# Altium integrated library ISSI SRAM Synchronous SRAM No-Wait(ZBT).IntLib: 1246 symbols (part 130 of 152)
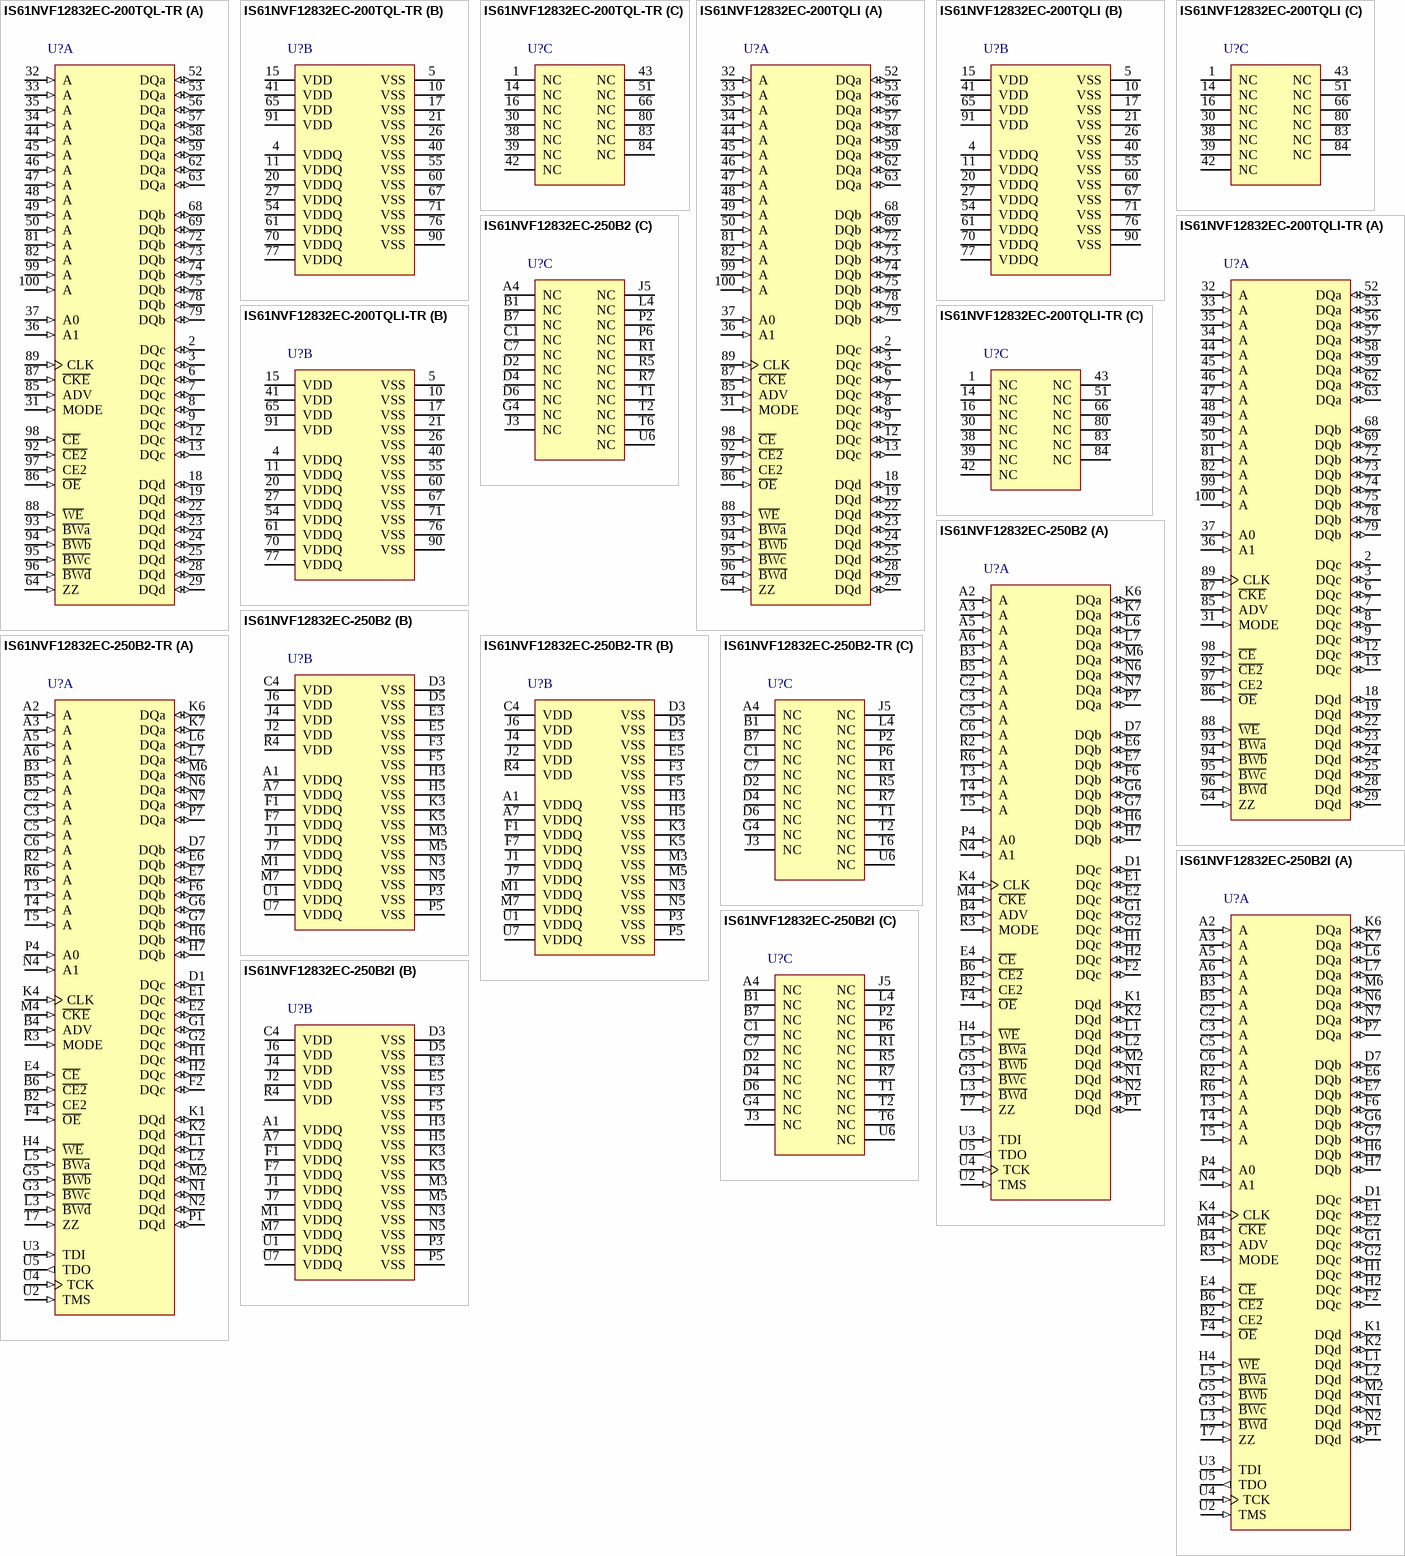
[diagram p304: symbols IS61NVF12832EC-200TQL-TR to IS61NVF12832EC-250B2I]

## IS61NVF12832EC-200TQLI-TR
designator U?
4 M Flow Through 'No Wait' State Bus Synchronous SRAM with ECC, 128 K x 32, -40 to 85 degC, 100-Pin QFP (TQFP-100), Pb-Free; Manufacturer: Integrated Silicon Solution Inc (ISSI); PartNumber: IS61NVF12832EC-200TQLI-TR; Density: 4M; Packing: Tape & Reel; Vcc: 2.5 V; DatasheetVersion: Rev. A; PackageVersion: Rev. F, 09/2009; PackageReference: TQFP-100; PackageDescription: 100-Pin 20 x 14 mm LQFP, Pitch 0.65 mm; Organization: 128Kx32; RoHS: Pb-Free; VccQ: 2.5 V; Mounting Technology: Surface Mount; ComponentLink1Description: Manufacturer URL; ComponentLink1URL: http://www.issi.com/US/index.shtml; ComponentLink2Description: Datasheet; ComponentLink2URL: http://www.issi.com/WW/pdf/61-64NLF_NVF12832EC-12836EC-25618EC.pdf; ComponentLink3Description: Package Specification; ComponentLink3URL: http://www.issi.com/WW/pdf/61VPS_LPS25636A_51218A.pdf
footprint ISSI-TQFP-100-20000X14000DE_N (QFP, 100-Leads, Body 20x14mm, Pitch 0.65mm, IPC Medium Density)
part A pins: 2 DQc (io) "Data I/O", 3 DQc (io) "Data I/O", 6 DQc (io) "Data I/O", 7 DQc (io) "Data I/O", 8 DQc (io) "Data I/O", 9 DQc (io) "Data I/O", 12 DQc (io) "Data I/O", 13 DQc (io) "Data I/O", 18 DQd (io) "Data I/O", 19 DQd (io) "Data I/O", 22 DQd (io) "Data I/O", 23 DQd (io) "Data I/O", 24 DQd (io) "Data I/O", 25 DQd (io) "Data I/O", 28 DQd (io) "Data I/O", 29 DQd (io) "Data I/O", 31 MODE (in) "Burst Sequence Selection", 32 A (in) "Synchronous Address Input", 33 A (in) "Synchronous Address Input", 34 A (in) "Synchronous Address Input", 35 A (in) "Synchronous Address Input", 36 A1 (in) "Synchronous Burst Address Input", 37 A0 (in) "Synchronous Burst Address Input", 44 A (in) "Synchronous Address Input", 45 A (in) "Synchronous Address Input", 46 A (in) "Synchronous Address Input", 47 A (in) "Synchronous Address Input", 48 A (in) "Synchronous Address Input", 49 A (in) "Synchronous Address Input", 50 A (in) "Synchronous Address Input", 52 DQa (io) "Data I/O", 53 DQa (io) "Data I/O", 56 DQa (io) "Data I/O", 57 DQa (io) "Data I/O", 58 DQa (io) "Data I/O", 59 DQa (io) "Data I/O", 62 DQa (io) "Data I/O", 63 DQa (io) "Data I/O", 64 ZZ (in) "Power Sleep Mode", 68 DQb (io) "Data I/O", 69 DQb (io) "Data I/O", 72 DQb (io) "Data I/O", 73 DQb (io) "Data I/O", 74 DQb (io) "Data I/O", 75 DQb (io) "Data I/O", 78 DQb (io) "Data I/O", 79 DQb (io) "Data I/O", 81 A (in) "Synchronous Address Input", 82 A (in) "Synchronous Address Input", 85 ADV (in) "Synchronous Burst Address Advance/Load", 86 ~{OE} (in) "Output Enable", 87 ~{CKE} (in) "Clock Enable", 88 ~{WE} (in) "Synchronous Read/Write Control Input", 89 CLK (in) "Synchronous Clock", 92 ~{CE2} (in) "Synchronous Chip Enable", 93 ~{BWa} (in) "Synchronous Byte Write Input", 94 ~{BWb} (in) "Synchronous Byte Write Input", 95 ~{BWc} (in) "Synchronous Byte Write Input", 96 ~{BWd} (in) "Synchronous Byte Write Input", 97 CE2 (in) "Synchronous Chip Enable", 98 ~{CE} (in) "Synchronous Chip Enable", 99 A (in) "Synchronous Address Input", 100 A (in) "Synchronous Address Input"
part B pins: 4 VDDQ (power) "I/O Power Supply", 5 VSS (power) "Ground", 10 VSS (power) "Ground", 11 VDDQ (power) "I/O Power Supply", 15 VDD (power) "Power Supply", 17 VSS (power) "Ground", 20 VDDQ (power) "I/O Power Supply", 21 VSS (power) "Ground", 26 VSS (power) "Ground", 27 VDDQ (power) "I/O Power Supply", 40 VSS (power) "Ground", 41 VDD (power) "Power Supply", 54 VDDQ (power) "I/O Power Supply", 55 VSS (power) "Ground", 60 VSS (power) "Ground", 61 VDDQ (power) "I/O Power Supply", 65 VDD (power) "Power Supply", 67 VSS (power) "Ground", 70 VDDQ (power) "I/O Power Supply", 71 VSS (power) "Ground", 76 VSS (power) "Ground", 77 VDDQ (power) "I/O Power Supply", 90 VSS (power) "Ground", 91 VDD (power) "Power Supply"
part C pins: 1 NC "No Connect", 14 NC "No Connect", 16 NC "No Connect", 30 NC "No Connect", 38 NC "No Connect", 39 NC "No Connect", 42 NC "No Connect", 43 NC "No Connect", 51 NC "No Connect", 66 NC "No Connect", 80 NC "No Connect", 83 NC "No Connect", 84 NC "No Connect"

## IS61NVF12832EC-250B2
designator U?
4 M Flow Through 'No Wait' State Bus Synchronous SRAM with ECC, 128 K x 32, 0 to 70 degC, 119-Pin BGA (PBGA-119); Manufacturer: Integrated Silicon Solution Inc (ISSI); PartNumber: IS61NVF12832EC-250B2; Density: 4M; Packing: Tray / Tube; Vcc: 2.5 V; DatasheetVersion: Rev. A; PackageVersion: Rev. D, 10/2008; PackageReference: PBGA-119; PackageDescription: 119-Pin 14 x 22 mm PBGA, Pitch 1.27 mm; Organization: 128Kx32; VccQ: 2.5 V; Mounting Technology: Surface Mount; Code_JEDEC: MS-028; ComponentLink1Description: Manufacturer URL; ComponentLink1URL: http://www.issi.com/US/index.shtml; ComponentLink2Description: Datasheet; ComponentLink2URL: http://www.issi.com/WW/pdf/61-64NLF_NVF12832EC-12836EC-25618EC.pdf; ComponentLink3Description: Package Specification; ComponentLink3URL: http://www.issi.com/WW/pdf/61NLP_NVP25636A_51218A.pdf
footprint ISSI-PBGA-119-14000X22000DE (BGA, 119-Balls, Body 22x14mm, Pitch 1.27mm)
part A pins: A2 A (in) "Synchronous Address Input", A3 A (in) "Synchronous Address Input", A5 A (in) "Synchronous Address Input", A6 A (in) "Synchronous Address Input", B2 CE2 (in) "Synchronous Chip Enable", B3 A (in) "Synchronous Address Input", B4 ADV (in) "Synchronous Advance/Load", B5 A (in) "Synchronous Address Input", B6 ~{CE2} (in) "Synchronous Chip Enable", C2 A (in) "Synchronous Address Input", C3 A (in) "Synchronous Address Input", C5 A (in) "Synchronous Address Input", C6 A (in) "Synchronous Address Input", D1 DQc (io) "Synchronous Data Input/Output", D7 DQb (io) "Synchronous Data Input/Output", E1 DQc (io) "Synchronous Data Input/Output", E2 DQc (io) "Synchronous Data Input/Output", E4 ~{CE} (in) "Synchronous Chip Enable", E6 DQb (io) "Synchronous Data Input/Output", E7 DQb (io) "Synchronous Data Input/Output", F2 DQc (io) "Synchronous Data Input/Output", F4 ~{OE} (in) "Output Enable", F6 DQb (io) "Synchronous Data Input/Output", G1 DQc (io) "Synchronous Data Input/Output", G2 DQc (io) "Synchronous Data Input/Output", G3 ~{BWc} (in) "Synchronous Byte Write Input", G5 ~{BWb} (in) "Synchronous Byte Write Input", G6 DQb (io) "Synchronous Data Input/Output", G7 DQb (io) "Synchronous Data Input/Output", H1 DQc (io) "Synchronous Data Input/Output", H2 DQc (io) "Synchronous Data Input/Output", H4 ~{WE} (in) "Synchronous Byte Write Enable", H6 DQb (io) "Synchronous Data Input/Output", H7 DQb (io) "Synchronous Data Input/Output", K1 DQd (io) "Synchronous Data Input/Output", K2 DQd (io) "Synchronous Data Input/Output", K4 CLK (in) "Synchronous Clock", K6 DQa (io) "Synchronous Data Input/Output", K7 DQa (io) "Synchronous Data Input/Output", L1 DQd (io) "Synchronous Data Input/Output", L2 DQd (io) "Synchronous Data Input/Output", L3 ~{BWd} (in) "Synchronous Byte Write Input", L5 ~{BWa} (in) "Synchronous Byte Write Input", L6 DQa (io) "Synchronous Data Input/Output", L7 DQa (io) "Synchronous Data Input/Output", M2 DQd (io) "Synchronous Data Input/Output", M4 ~{CKE} (in) "Clock Enable", M6 DQa (io) "Synchronous Data Input/Output", N1 DQd (io) "Synchronous Data Input/Output", N2 DQd (io) "Synchronous Data Input/Output", N4 A1 (in) "Synchronous Burst Address Input", N6 DQa (io) "Synchronous Data Input/Output", N7 DQa (io) "Synchronous Data Input/Output", P1 DQd (io) "Synchronous Data Input/Output", P4 A0 (in) "Synchronous Burst Address Input", P7 DQa (io) "Synchronous Data Input/Output", R2 A (in) "Synchronous Address Input", R3 MODE (in) "Burst Sequence Selection", R6 A (in) "Synchronous Address Input", T3 A (in) "Synchronous Address Input", T4 A (in) "Synchronous Address Input", T5 A (in) "Synchronous Address Input", T7 ZZ (in) "Power Sleep Mode", U2 TMS (in) "JTAG Pin", U3 TDI (in) "JTAG Pin", U4 TCK (in) "JTAG Pin", U5 TDO (out) "JTAG Pin"
part B pins: A1 VDDQ (power) "I/O Power Supply", A7 VDDQ (power) "I/O Power Supply", C4 VDD (power) "Power Supply", D3 VSS (power) "Ground", D5 VSS (power) "Ground", E3 VSS (power) "Ground", E5 VSS (power) "Ground", F1 VDDQ (power) "I/O Power Supply", F3 VSS (power) "Ground", F5 VSS (power) "Ground", F7 VDDQ (power) "I/O Power Supply", H3 VSS (power) "Ground", H5 VSS (power) "Ground", J1 VDDQ (power) "I/O Power Supply", J2 VDD (power) "Power Supply", J4 VDD (power) "Power Supply", J6 VDD (power) "Power Supply", J7 VDDQ (power) "I/O Power Supply", K3 VSS (power) "Ground", K5 VSS (power) "Ground", M1 VDDQ (power) "I/O Power Supply", M3 VSS (power) "Ground", M5 VSS (power) "Ground", M7 VDDQ (power) "I/O Power Supply", N3 VSS (power) "Ground", N5 VSS (power) "Ground", P3 VSS (power) "Ground", P5 VSS (power) "Ground", R4 VDD (power) "Power Supply", U1 VDDQ (power) "I/O Power Supply", U7 VDDQ (power) "I/O Power Supply"
part C pins: A4 NC "No Connect", B1 NC "No Connect", B7 NC "No Connect", C1 NC "No Connect", C7 NC "No Connect", D2 NC "No Connect", D4 NC "No Connect", D6 NC "No Connect", G4 NC "No Connect", J3 NC "No Connect", J5 NC "No Connect", L4 NC "No Connect", P2 NC "No Connect", P6 NC "No Connect", R1 NC "No Connect", R5 NC "No Connect", R7 NC "No Connect", T1 NC "No Connect", T2 NC "No Connect", T6 NC "No Connect", U6 NC "No Connect"

## IS61NVF12832EC-250B2-TR
designator U?
4 M Flow Through 'No Wait' State Bus Synchronous SRAM with ECC, 128 K x 32, 0 to 70 degC, 119-Pin BGA (PBGA-119); Manufacturer: Integrated Silicon Solution Inc (ISSI); PartNumber: IS61NVF12832EC-250B2-TR; Density: 4M; Packing: Tape & Reel; Vcc: 2.5 V; DatasheetVersion: Rev. A; PackageVersion: Rev. D, 10/2008; PackageReference: PBGA-119; PackageDescription: 119-Pin 14 x 22 mm PBGA, Pitch 1.27 mm; Organization: 128Kx32; VccQ: 2.5 V; Mounting Technology: Surface Mount; Code_JEDEC: MS-028; ComponentLink1Description: Manufacturer URL; ComponentLink1URL: http://www.issi.com/US/index.shtml; ComponentLink2Description: Datasheet; ComponentLink2URL: http://www.issi.com/WW/pdf/61-64NLF_NVF12832EC-12836EC-25618EC.pdf; ComponentLink3Description: Package Specification; ComponentLink3URL: http://www.issi.com/WW/pdf/61NLP_NVP25636A_51218A.pdf
footprint ISSI-PBGA-119-14000X22000DE (BGA, 119-Balls, Body 22x14mm, Pitch 1.27mm)
part A pins: A2 A (in) "Synchronous Address Input", A3 A (in) "Synchronous Address Input", A5 A (in) "Synchronous Address Input", A6 A (in) "Synchronous Address Input", B2 CE2 (in) "Synchronous Chip Enable", B3 A (in) "Synchronous Address Input", B4 ADV (in) "Synchronous Advance/Load", B5 A (in) "Synchronous Address Input", B6 ~{CE2} (in) "Synchronous Chip Enable", C2 A (in) "Synchronous Address Input", C3 A (in) "Synchronous Address Input", C5 A (in) "Synchronous Address Input", C6 A (in) "Synchronous Address Input", D1 DQc (io) "Synchronous Data Input/Output", D7 DQb (io) "Synchronous Data Input/Output", E1 DQc (io) "Synchronous Data Input/Output", E2 DQc (io) "Synchronous Data Input/Output", E4 ~{CE} (in) "Synchronous Chip Enable", E6 DQb (io) "Synchronous Data Input/Output", E7 DQb (io) "Synchronous Data Input/Output", F2 DQc (io) "Synchronous Data Input/Output", F4 ~{OE} (in) "Output Enable", F6 DQb (io) "Synchronous Data Input/Output", G1 DQc (io) "Synchronous Data Input/Output", G2 DQc (io) "Synchronous Data Input/Output", G3 ~{BWc} (in) "Synchronous Byte Write Input", G5 ~{BWb} (in) "Synchronous Byte Write Input", G6 DQb (io) "Synchronous Data Input/Output", G7 DQb (io) "Synchronous Data Input/Output", H1 DQc (io) "Synchronous Data Input/Output", H2 DQc (io) "Synchronous Data Input/Output", H4 ~{WE} (in) "Synchronous Byte Write Enable", H6 DQb (io) "Synchronous Data Input/Output", H7 DQb (io) "Synchronous Data Input/Output", K1 DQd (io) "Synchronous Data Input/Output", K2 DQd (io) "Synchronous Data Input/Output", K4 CLK (in) "Synchronous Clock", K6 DQa (io) "Synchronous Data Input/Output", K7 DQa (io) "Synchronous Data Input/Output", L1 DQd (io) "Synchronous Data Input/Output", L2 DQd (io) "Synchronous Data Input/Output", L3 ~{BWd} (in) "Synchronous Byte Write Input", L5 ~{BWa} (in) "Synchronous Byte Write Input", L6 DQa (io) "Synchronous Data Input/Output", L7 DQa (io) "Synchronous Data Input/Output", M2 DQd (io) "Synchronous Data Input/Output", M4 ~{CKE} (in) "Clock Enable", M6 DQa (io) "Synchronous Data Input/Output", N1 DQd (io) "Synchronous Data Input/Output", N2 DQd (io) "Synchronous Data Input/Output", N4 A1 (in) "Synchronous Burst Address Input", N6 DQa (io) "Synchronous Data Input/Output", N7 DQa (io) "Synchronous Data Input/Output", P1 DQd (io) "Synchronous Data Input/Output", P4 A0 (in) "Synchronous Burst Address Input", P7 DQa (io) "Synchronous Data Input/Output", R2 A (in) "Synchronous Address Input", R3 MODE (in) "Burst Sequence Selection", R6 A (in) "Synchronous Address Input", T3 A (in) "Synchronous Address Input", T4 A (in) "Synchronous Address Input", T5 A (in) "Synchronous Address Input", T7 ZZ (in) "Power Sleep Mode", U2 TMS (in) "JTAG Pin", U3 TDI (in) "JTAG Pin", U4 TCK (in) "JTAG Pin", U5 TDO (out) "JTAG Pin"
part B pins: A1 VDDQ (power) "I/O Power Supply", A7 VDDQ (power) "I/O Power Supply", C4 VDD (power) "Power Supply", D3 VSS (power) "Ground", D5 VSS (power) "Ground", E3 VSS (power) "Ground", E5 VSS (power) "Ground", F1 VDDQ (power) "I/O Power Supply", F3 VSS (power) "Ground", F5 VSS (power) "Ground", F7 VDDQ (power) "I/O Power Supply", H3 VSS (power) "Ground", H5 VSS (power) "Ground", J1 VDDQ (power) "I/O Power Supply", J2 VDD (power) "Power Supply", J4 VDD (power) "Power Supply", J6 VDD (power) "Power Supply", J7 VDDQ (power) "I/O Power Supply", K3 VSS (power) "Ground", K5 VSS (power) "Ground", M1 VDDQ (power) "I/O Power Supply", M3 VSS (power) "Ground", M5 VSS (power) "Ground", M7 VDDQ (power) "I/O Power Supply", N3 VSS (power) "Ground", N5 VSS (power) "Ground", P3 VSS (power) "Ground", P5 VSS (power) "Ground", R4 VDD (power) "Power Supply", U1 VDDQ (power) "I/O Power Supply", U7 VDDQ (power) "I/O Power Supply"
part C pins: A4 NC "No Connect", B1 NC "No Connect", B7 NC "No Connect", C1 NC "No Connect", C7 NC "No Connect", D2 NC "No Connect", D4 NC "No Connect", D6 NC "No Connect", G4 NC "No Connect", J3 NC "No Connect", J5 NC "No Connect", L4 NC "No Connect", P2 NC "No Connect", P6 NC "No Connect", R1 NC "No Connect", R5 NC "No Connect", R7 NC "No Connect", T1 NC "No Connect", T2 NC "No Connect", T6 NC "No Connect", U6 NC "No Connect"

## IS61NVF12832EC-250B2I
designator U?
4 M Flow Through 'No Wait' State Bus Synchronous SRAM with ECC, 128 K x 32, -40 to 85 degC, 119-Pin BGA (PBGA-119); Manufacturer: Integrated Silicon Solution Inc (ISSI); PartNumber: IS61NVF12832EC-250B2I; Density: 4M; Packing: Tray / Tube; Vcc: 2.5 V; DatasheetVersion: Rev. A; PackageVersion: Rev. D, 10/2008; PackageReference: PBGA-119; PackageDescription: 119-Pin 14 x 22 mm PBGA, Pitch 1.27 mm; Organization: 128Kx32; VccQ: 2.5 V; Mounting Technology: Surface Mount; Code_JEDEC: MS-028; ComponentLink1Description: Manufacturer URL; ComponentLink1URL: http://www.issi.com/US/index.shtml; ComponentLink2Description: Datasheet; ComponentLink2URL: http://www.issi.com/WW/pdf/61-64NLF_NVF12832EC-12836EC-25618EC.pdf; ComponentLink3Description: Package Specification; ComponentLink3URL: http://www.issi.com/WW/pdf/61NLP_NVP25636A_51218A.pdf
footprint ISSI-PBGA-119-14000X22000DE (BGA, 119-Balls, Body 22x14mm, Pitch 1.27mm)
part A pins: A2 A (in) "Synchronous Address Input", A3 A (in) "Synchronous Address Input", A5 A (in) "Synchronous Address Input", A6 A (in) "Synchronous Address Input", B2 CE2 (in) "Synchronous Chip Enable", B3 A (in) "Synchronous Address Input", B4 ADV (in) "Synchronous Advance/Load", B5 A (in) "Synchronous Address Input", B6 ~{CE2} (in) "Synchronous Chip Enable", C2 A (in) "Synchronous Address Input", C3 A (in) "Synchronous Address Input", C5 A (in) "Synchronous Address Input", C6 A (in) "Synchronous Address Input", D1 DQc (io) "Synchronous Data Input/Output", D7 DQb (io) "Synchronous Data Input/Output", E1 DQc (io) "Synchronous Data Input/Output", E2 DQc (io) "Synchronous Data Input/Output", E4 ~{CE} (in) "Synchronous Chip Enable", E6 DQb (io) "Synchronous Data Input/Output", E7 DQb (io) "Synchronous Data Input/Output", F2 DQc (io) "Synchronous Data Input/Output", F4 ~{OE} (in) "Output Enable", F6 DQb (io) "Synchronous Data Input/Output", G1 DQc (io) "Synchronous Data Input/Output", G2 DQc (io) "Synchronous Data Input/Output", G3 ~{BWc} (in) "Synchronous Byte Write Input", G5 ~{BWb} (in) "Synchronous Byte Write Input", G6 DQb (io) "Synchronous Data Input/Output", G7 DQb (io) "Synchronous Data Input/Output", H1 DQc (io) "Synchronous Data Input/Output", H2 DQc (io) "Synchronous Data Input/Output", H4 ~{WE} (in) "Synchronous Byte Write Enable", H6 DQb (io) "Synchronous Data Input/Output", H7 DQb (io) "Synchronous Data Input/Output", K1 DQd (io) "Synchronous Data Input/Output", K2 DQd (io) "Synchronous Data Input/Output", K4 CLK (in) "Synchronous Clock", K6 DQa (io) "Synchronous Data Input/Output", K7 DQa (io) "Synchronous Data Input/Output", L1 DQd (io) "Synchronous Data Input/Output", L2 DQd (io) "Synchronous Data Input/Output", L3 ~{BWd} (in) "Synchronous Byte Write Input", L5 ~{BWa} (in) "Synchronous Byte Write Input", L6 DQa (io) "Synchronous Data Input/Output", L7 DQa (io) "Synchronous Data Input/Output", M2 DQd (io) "Synchronous Data Input/Output", M4 ~{CKE} (in) "Clock Enable", M6 DQa (io) "Synchronous Data Input/Output", N1 DQd (io) "Synchronous Data Input/Output", N2 DQd (io) "Synchronous Data Input/Output", N4 A1 (in) "Synchronous Burst Address Input", N6 DQa (io) "Synchronous Data Input/Output", N7 DQa (io) "Synchronous Data Input/Output", P1 DQd (io) "Synchronous Data Input/Output", P4 A0 (in) "Synchronous Burst Address Input", P7 DQa (io) "Synchronous Data Input/Output", R2 A (in) "Synchronous Address Input", R3 MODE (in) "Burst Sequence Selection", R6 A (in) "Synchronous Address Input", T3 A (in) "Synchronous Address Input", T4 A (in) "Synchronous Address Input", T5 A (in) "Synchronous Address Input", T7 ZZ (in) "Power Sleep Mode", U2 TMS (in) "JTAG Pin", U3 TDI (in) "JTAG Pin", U4 TCK (in) "JTAG Pin", U5 TDO (out) "JTAG Pin"
part B pins: A1 VDDQ (power) "I/O Power Supply", A7 VDDQ (power) "I/O Power Supply", C4 VDD (power) "Power Supply", D3 VSS (power) "Ground", D5 VSS (power) "Ground", E3 VSS (power) "Ground", E5 VSS (power) "Ground", F1 VDDQ (power) "I/O Power Supply", F3 VSS (power) "Ground", F5 VSS (power) "Ground", F7 VDDQ (power) "I/O Power Supply", H3 VSS (power) "Ground", H5 VSS (power) "Ground", J1 VDDQ (power) "I/O Power Supply", J2 VDD (power) "Power Supply", J4 VDD (power) "Power Supply", J6 VDD (power) "Power Supply", J7 VDDQ (power) "I/O Power Supply", K3 VSS (power) "Ground", K5 VSS (power) "Ground", M1 VDDQ (power) "I/O Power Supply", M3 VSS (power) "Ground", M5 VSS (power) "Ground", M7 VDDQ (power) "I/O Power Supply", N3 VSS (power) "Ground", N5 VSS (power) "Ground", P3 VSS (power) "Ground", P5 VSS (power) "Ground", R4 VDD (power) "Power Supply", U1 VDDQ (power) "I/O Power Supply", U7 VDDQ (power) "I/O Power Supply"
part C pins: A4 NC "No Connect", B1 NC "No Connect", B7 NC "No Connect", C1 NC "No Connect", C7 NC "No Connect", D2 NC "No Connect", D4 NC "No Connect", D6 NC "No Connect", G4 NC "No Connect", J3 NC "No Connect", J5 NC "No Connect", L4 NC "No Connect", P2 NC "No Connect", P6 NC "No Connect", R1 NC "No Connect", R5 NC "No Connect", R7 NC "No Connect", T1 NC "No Connect", T2 NC "No Connect", T6 NC "No Connect", U6 NC "No Connect"

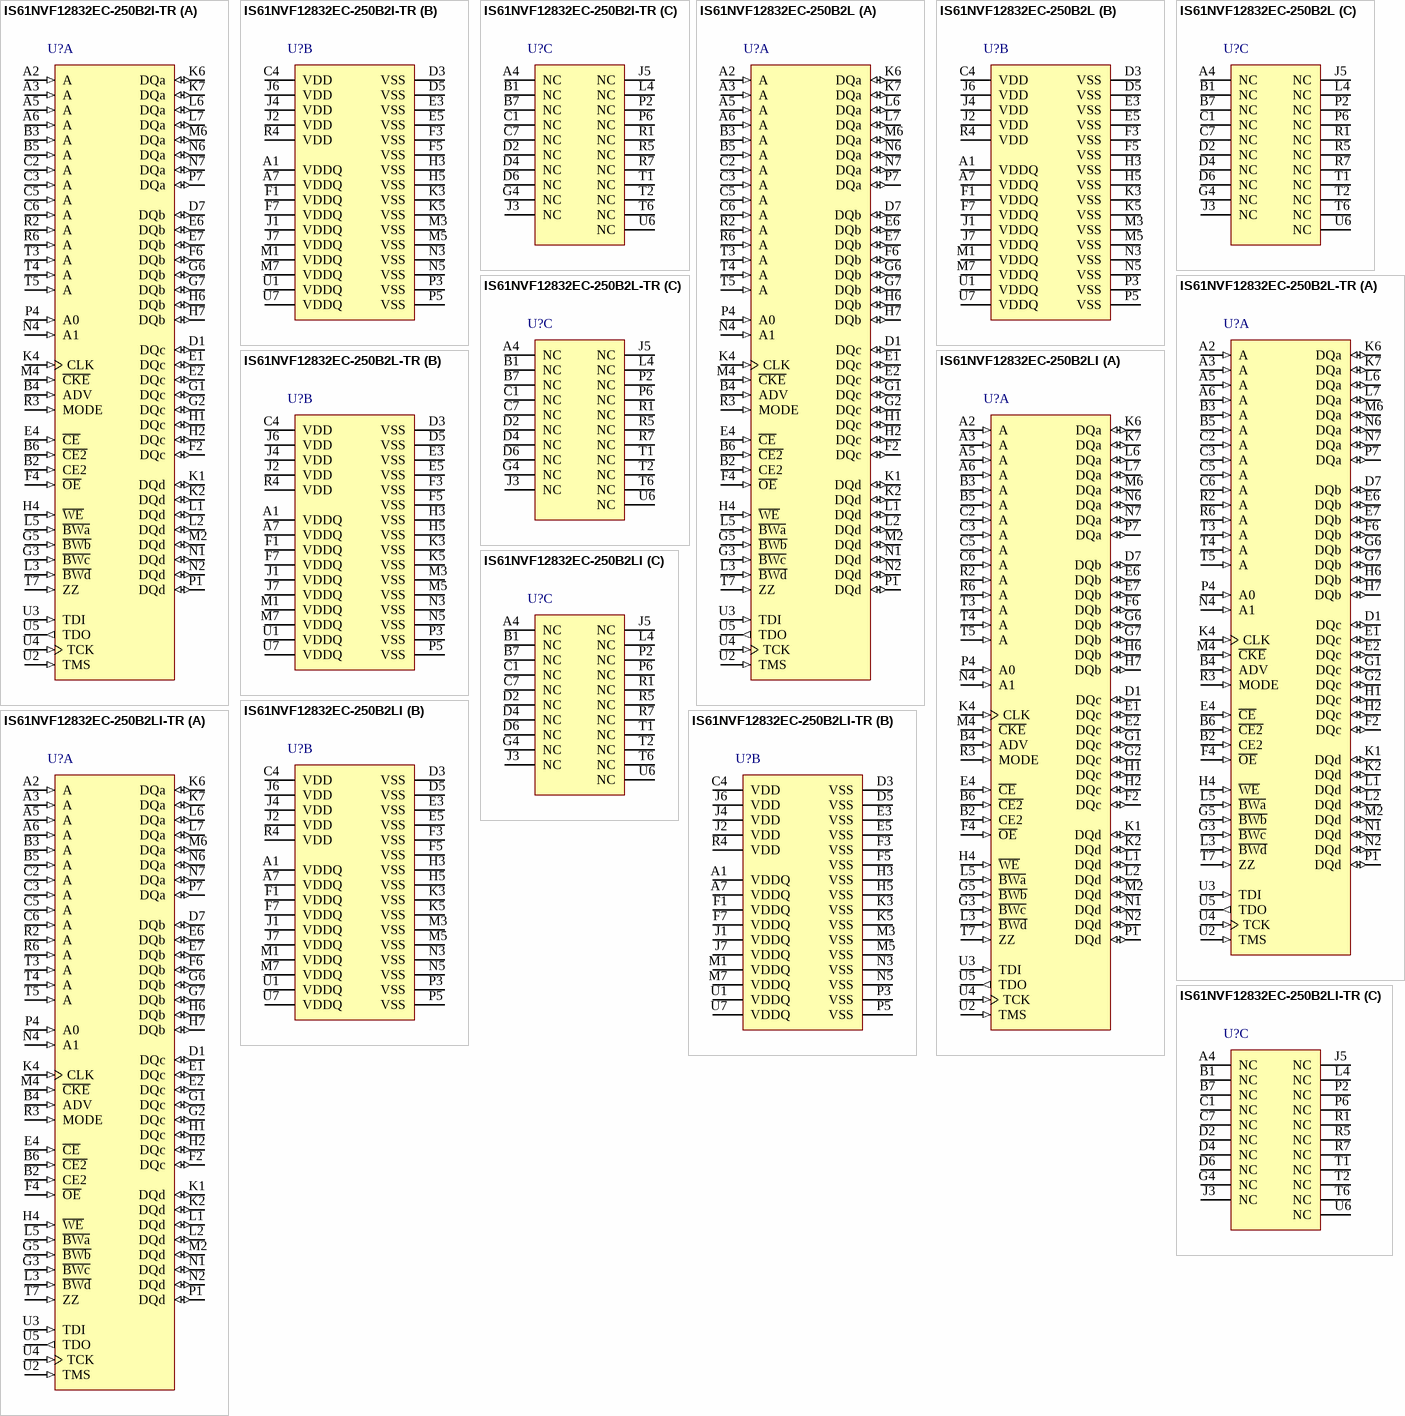
[diagram p128: symbols IS61NVF12832EC-250B2I-TR to IS61NVF12832EC-250B2LI-TR]

## IS61NVF12832EC-250B2I-TR
designator U?
4 M Flow Through 'No Wait' State Bus Synchronous SRAM with ECC, 128 K x 32, -40 to 85 degC, 119-Pin BGA (PBGA-119); Manufacturer: Integrated Silicon Solution Inc (ISSI); PartNumber: IS61NVF12832EC-250B2I-TR; Density: 4M; Packing: Tape & Reel; Vcc: 2.5 V; DatasheetVersion: Rev. A; PackageVersion: Rev. D, 10/2008; PackageReference: PBGA-119; PackageDescription: 119-Pin 14 x 22 mm PBGA, Pitch 1.27 mm; Organization: 128Kx32; VccQ: 2.5 V; Mounting Technology: Surface Mount; Code_JEDEC: MS-028; ComponentLink1Description: Manufacturer URL; ComponentLink1URL: http://www.issi.com/US/index.shtml; ComponentLink2Description: Datasheet; ComponentLink2URL: http://www.issi.com/WW/pdf/61-64NLF_NVF12832EC-12836EC-25618EC.pdf; ComponentLink3Description: Package Specification; ComponentLink3URL: http://www.issi.com/WW/pdf/61NLP_NVP25636A_51218A.pdf
footprint ISSI-PBGA-119-14000X22000DE (BGA, 119-Balls, Body 22x14mm, Pitch 1.27mm)
part A pins: A2 A (in) "Synchronous Address Input", A3 A (in) "Synchronous Address Input", A5 A (in) "Synchronous Address Input", A6 A (in) "Synchronous Address Input", B2 CE2 (in) "Synchronous Chip Enable", B3 A (in) "Synchronous Address Input", B4 ADV (in) "Synchronous Advance/Load", B5 A (in) "Synchronous Address Input", B6 ~{CE2} (in) "Synchronous Chip Enable", C2 A (in) "Synchronous Address Input", C3 A (in) "Synchronous Address Input", C5 A (in) "Synchronous Address Input", C6 A (in) "Synchronous Address Input", D1 DQc (io) "Synchronous Data Input/Output", D7 DQb (io) "Synchronous Data Input/Output", E1 DQc (io) "Synchronous Data Input/Output", E2 DQc (io) "Synchronous Data Input/Output", E4 ~{CE} (in) "Synchronous Chip Enable", E6 DQb (io) "Synchronous Data Input/Output", E7 DQb (io) "Synchronous Data Input/Output", F2 DQc (io) "Synchronous Data Input/Output", F4 ~{OE} (in) "Output Enable", F6 DQb (io) "Synchronous Data Input/Output", G1 DQc (io) "Synchronous Data Input/Output", G2 DQc (io) "Synchronous Data Input/Output", G3 ~{BWc} (in) "Synchronous Byte Write Input", G5 ~{BWb} (in) "Synchronous Byte Write Input", G6 DQb (io) "Synchronous Data Input/Output", G7 DQb (io) "Synchronous Data Input/Output", H1 DQc (io) "Synchronous Data Input/Output", H2 DQc (io) "Synchronous Data Input/Output", H4 ~{WE} (in) "Synchronous Byte Write Enable", H6 DQb (io) "Synchronous Data Input/Output", H7 DQb (io) "Synchronous Data Input/Output", K1 DQd (io) "Synchronous Data Input/Output", K2 DQd (io) "Synchronous Data Input/Output", K4 CLK (in) "Synchronous Clock", K6 DQa (io) "Synchronous Data Input/Output", K7 DQa (io) "Synchronous Data Input/Output", L1 DQd (io) "Synchronous Data Input/Output", L2 DQd (io) "Synchronous Data Input/Output", L3 ~{BWd} (in) "Synchronous Byte Write Input", L5 ~{BWa} (in) "Synchronous Byte Write Input", L6 DQa (io) "Synchronous Data Input/Output", L7 DQa (io) "Synchronous Data Input/Output", M2 DQd (io) "Synchronous Data Input/Output", M4 ~{CKE} (in) "Clock Enable", M6 DQa (io) "Synchronous Data Input/Output", N1 DQd (io) "Synchronous Data Input/Output", N2 DQd (io) "Synchronous Data Input/Output", N4 A1 (in) "Synchronous Burst Address Input", N6 DQa (io) "Synchronous Data Input/Output", N7 DQa (io) "Synchronous Data Input/Output", P1 DQd (io) "Synchronous Data Input/Output", P4 A0 (in) "Synchronous Burst Address Input", P7 DQa (io) "Synchronous Data Input/Output", R2 A (in) "Synchronous Address Input", R3 MODE (in) "Burst Sequence Selection", R6 A (in) "Synchronous Address Input", T3 A (in) "Synchronous Address Input", T4 A (in) "Synchronous Address Input", T5 A (in) "Synchronous Address Input", T7 ZZ (in) "Power Sleep Mode", U2 TMS (in) "JTAG Pin", U3 TDI (in) "JTAG Pin", U4 TCK (in) "JTAG Pin", U5 TDO (out) "JTAG Pin"
part B pins: A1 VDDQ (power) "I/O Power Supply", A7 VDDQ (power) "I/O Power Supply", C4 VDD (power) "Power Supply", D3 VSS (power) "Ground", D5 VSS (power) "Ground", E3 VSS (power) "Ground", E5 VSS (power) "Ground", F1 VDDQ (power) "I/O Power Supply", F3 VSS (power) "Ground", F5 VSS (power) "Ground", F7 VDDQ (power) "I/O Power Supply", H3 VSS (power) "Ground", H5 VSS (power) "Ground", J1 VDDQ (power) "I/O Power Supply", J2 VDD (power) "Power Supply", J4 VDD (power) "Power Supply", J6 VDD (power) "Power Supply", J7 VDDQ (power) "I/O Power Supply", K3 VSS (power) "Ground", K5 VSS (power) "Ground", M1 VDDQ (power) "I/O Power Supply", M3 VSS (power) "Ground", M5 VSS (power) "Ground", M7 VDDQ (power) "I/O Power Supply", N3 VSS (power) "Ground", N5 VSS (power) "Ground", P3 VSS (power) "Ground", P5 VSS (power) "Ground", R4 VDD (power) "Power Supply", U1 VDDQ (power) "I/O Power Supply", U7 VDDQ (power) "I/O Power Supply"
part C pins: A4 NC "No Connect", B1 NC "No Connect", B7 NC "No Connect", C1 NC "No Connect", C7 NC "No Connect", D2 NC "No Connect", D4 NC "No Connect", D6 NC "No Connect", G4 NC "No Connect", J3 NC "No Connect", J5 NC "No Connect", L4 NC "No Connect", P2 NC "No Connect", P6 NC "No Connect", R1 NC "No Connect", R5 NC "No Connect", R7 NC "No Connect", T1 NC "No Connect", T2 NC "No Connect", T6 NC "No Connect", U6 NC "No Connect"

## IS61NVF12832EC-250B2L
designator U?
4 M Flow Through 'No Wait' State Bus Synchronous SRAM with ECC, 128 K x 32, 0 to 70 degC, 119-Pin BGA (PBGA-119), Pb-Free; Manufacturer: Integrated Silicon Solution Inc (ISSI); PartNumber: IS61NVF12832EC-250B2L; Density: 4M; Packing: Tray / Tube; Vcc: 2.5 V; DatasheetVersion: Rev. A; PackageVersion: Rev. D, 10/2008; PackageReference: PBGA-119; PackageDescription: 119-Pin 14 x 22 mm PBGA, Pitch 1.27 mm; Organization: 128Kx32; RoHS: Pb-Free; VccQ: 2.5 V; Mounting Technology: Surface Mount; Code_JEDEC: MS-028; ComponentLink1Description: Manufacturer URL; ComponentLink1URL: http://www.issi.com/US/index.shtml; ComponentLink2Description: Datasheet; ComponentLink2URL: http://www.issi.com/WW/pdf/61-64NLF_NVF12832EC-12836EC-25618EC.pdf; ComponentLink3Description: Package Specification; ComponentLink3URL: http://www.issi.com/WW/pdf/61NLP_NVP25636A_51218A.pdf
footprint ISSI-PBGA-119-14000X22000DE (BGA, 119-Balls, Body 22x14mm, Pitch 1.27mm)
part A pins: A2 A (in) "Synchronous Address Input", A3 A (in) "Synchronous Address Input", A5 A (in) "Synchronous Address Input", A6 A (in) "Synchronous Address Input", B2 CE2 (in) "Synchronous Chip Enable", B3 A (in) "Synchronous Address Input", B4 ADV (in) "Synchronous Advance/Load", B5 A (in) "Synchronous Address Input", B6 ~{CE2} (in) "Synchronous Chip Enable", C2 A (in) "Synchronous Address Input", C3 A (in) "Synchronous Address Input", C5 A (in) "Synchronous Address Input", C6 A (in) "Synchronous Address Input", D1 DQc (io) "Synchronous Data Input/Output", D7 DQb (io) "Synchronous Data Input/Output", E1 DQc (io) "Synchronous Data Input/Output", E2 DQc (io) "Synchronous Data Input/Output", E4 ~{CE} (in) "Synchronous Chip Enable", E6 DQb (io) "Synchronous Data Input/Output", E7 DQb (io) "Synchronous Data Input/Output", F2 DQc (io) "Synchronous Data Input/Output", F4 ~{OE} (in) "Output Enable", F6 DQb (io) "Synchronous Data Input/Output", G1 DQc (io) "Synchronous Data Input/Output", G2 DQc (io) "Synchronous Data Input/Output", G3 ~{BWc} (in) "Synchronous Byte Write Input", G5 ~{BWb} (in) "Synchronous Byte Write Input", G6 DQb (io) "Synchronous Data Input/Output", G7 DQb (io) "Synchronous Data Input/Output", H1 DQc (io) "Synchronous Data Input/Output", H2 DQc (io) "Synchronous Data Input/Output", H4 ~{WE} (in) "Synchronous Byte Write Enable", H6 DQb (io) "Synchronous Data Input/Output", H7 DQb (io) "Synchronous Data Input/Output", K1 DQd (io) "Synchronous Data Input/Output", K2 DQd (io) "Synchronous Data Input/Output", K4 CLK (in) "Synchronous Clock", K6 DQa (io) "Synchronous Data Input/Output", K7 DQa (io) "Synchronous Data Input/Output", L1 DQd (io) "Synchronous Data Input/Output", L2 DQd (io) "Synchronous Data Input/Output", L3 ~{BWd} (in) "Synchronous Byte Write Input", L5 ~{BWa} (in) "Synchronous Byte Write Input", L6 DQa (io) "Synchronous Data Input/Output", L7 DQa (io) "Synchronous Data Input/Output", M2 DQd (io) "Synchronous Data Input/Output", M4 ~{CKE} (in) "Clock Enable", M6 DQa (io) "Synchronous Data Input/Output", N1 DQd (io) "Synchronous Data Input/Output", N2 DQd (io) "Synchronous Data Input/Output", N4 A1 (in) "Synchronous Burst Address Input", N6 DQa (io) "Synchronous Data Input/Output", N7 DQa (io) "Synchronous Data Input/Output", P1 DQd (io) "Synchronous Data Input/Output", P4 A0 (in) "Synchronous Burst Address Input", P7 DQa (io) "Synchronous Data Input/Output", R2 A (in) "Synchronous Address Input", R3 MODE (in) "Burst Sequence Selection", R6 A (in) "Synchronous Address Input", T3 A (in) "Synchronous Address Input", T4 A (in) "Synchronous Address Input", T5 A (in) "Synchronous Address Input", T7 ZZ (in) "Power Sleep Mode", U2 TMS (in) "JTAG Pin", U3 TDI (in) "JTAG Pin", U4 TCK (in) "JTAG Pin", U5 TDO (out) "JTAG Pin"
part B pins: A1 VDDQ (power) "I/O Power Supply", A7 VDDQ (power) "I/O Power Supply", C4 VDD (power) "Power Supply", D3 VSS (power) "Ground", D5 VSS (power) "Ground", E3 VSS (power) "Ground", E5 VSS (power) "Ground", F1 VDDQ (power) "I/O Power Supply", F3 VSS (power) "Ground", F5 VSS (power) "Ground", F7 VDDQ (power) "I/O Power Supply", H3 VSS (power) "Ground", H5 VSS (power) "Ground", J1 VDDQ (power) "I/O Power Supply", J2 VDD (power) "Power Supply", J4 VDD (power) "Power Supply", J6 VDD (power) "Power Supply", J7 VDDQ (power) "I/O Power Supply", K3 VSS (power) "Ground", K5 VSS (power) "Ground", M1 VDDQ (power) "I/O Power Supply", M3 VSS (power) "Ground", M5 VSS (power) "Ground", M7 VDDQ (power) "I/O Power Supply", N3 VSS (power) "Ground", N5 VSS (power) "Ground", P3 VSS (power) "Ground", P5 VSS (power) "Ground", R4 VDD (power) "Power Supply", U1 VDDQ (power) "I/O Power Supply", U7 VDDQ (power) "I/O Power Supply"
part C pins: A4 NC "No Connect", B1 NC "No Connect", B7 NC "No Connect", C1 NC "No Connect", C7 NC "No Connect", D2 NC "No Connect", D4 NC "No Connect", D6 NC "No Connect", G4 NC "No Connect", J3 NC "No Connect", J5 NC "No Connect", L4 NC "No Connect", P2 NC "No Connect", P6 NC "No Connect", R1 NC "No Connect", R5 NC "No Connect", R7 NC "No Connect", T1 NC "No Connect", T2 NC "No Connect", T6 NC "No Connect", U6 NC "No Connect"

## IS61NVF12832EC-250B2L-TR
designator U?
4 M Flow Through 'No Wait' State Bus Synchronous SRAM with ECC, 128 K x 32, 0 to 70 degC, 119-Pin BGA (PBGA-119), Pb-Free; Manufacturer: Integrated Silicon Solution Inc (ISSI); PartNumber: IS61NVF12832EC-250B2L-TR; Density: 4M; Packing: Tape & Reel; Vcc: 2.5 V; DatasheetVersion: Rev. A; PackageVersion: Rev. D, 10/2008; PackageReference: PBGA-119; PackageDescription: 119-Pin 14 x 22 mm PBGA, Pitch 1.27 mm; Organization: 128Kx32; RoHS: Pb-Free; VccQ: 2.5 V; Mounting Technology: Surface Mount; Code_JEDEC: MS-028; ComponentLink1Description: Manufacturer URL; ComponentLink1URL: http://www.issi.com/US/index.shtml; ComponentLink2Description: Datasheet; ComponentLink2URL: http://www.issi.com/WW/pdf/61-64NLF_NVF12832EC-12836EC-25618EC.pdf; ComponentLink3Description: Package Specification; ComponentLink3URL: http://www.issi.com/WW/pdf/61NLP_NVP25636A_51218A.pdf
footprint ISSI-PBGA-119-14000X22000DE (BGA, 119-Balls, Body 22x14mm, Pitch 1.27mm)
part A pins: A2 A (in) "Synchronous Address Input", A3 A (in) "Synchronous Address Input", A5 A (in) "Synchronous Address Input", A6 A (in) "Synchronous Address Input", B2 CE2 (in) "Synchronous Chip Enable", B3 A (in) "Synchronous Address Input", B4 ADV (in) "Synchronous Advance/Load", B5 A (in) "Synchronous Address Input", B6 ~{CE2} (in) "Synchronous Chip Enable", C2 A (in) "Synchronous Address Input", C3 A (in) "Synchronous Address Input", C5 A (in) "Synchronous Address Input", C6 A (in) "Synchronous Address Input", D1 DQc (io) "Synchronous Data Input/Output", D7 DQb (io) "Synchronous Data Input/Output", E1 DQc (io) "Synchronous Data Input/Output", E2 DQc (io) "Synchronous Data Input/Output", E4 ~{CE} (in) "Synchronous Chip Enable", E6 DQb (io) "Synchronous Data Input/Output", E7 DQb (io) "Synchronous Data Input/Output", F2 DQc (io) "Synchronous Data Input/Output", F4 ~{OE} (in) "Output Enable", F6 DQb (io) "Synchronous Data Input/Output", G1 DQc (io) "Synchronous Data Input/Output", G2 DQc (io) "Synchronous Data Input/Output", G3 ~{BWc} (in) "Synchronous Byte Write Input", G5 ~{BWb} (in) "Synchronous Byte Write Input", G6 DQb (io) "Synchronous Data Input/Output", G7 DQb (io) "Synchronous Data Input/Output", H1 DQc (io) "Synchronous Data Input/Output", H2 DQc (io) "Synchronous Data Input/Output", H4 ~{WE} (in) "Synchronous Byte Write Enable", H6 DQb (io) "Synchronous Data Input/Output", H7 DQb (io) "Synchronous Data Input/Output", K1 DQd (io) "Synchronous Data Input/Output", K2 DQd (io) "Synchronous Data Input/Output", K4 CLK (in) "Synchronous Clock", K6 DQa (io) "Synchronous Data Input/Output", K7 DQa (io) "Synchronous Data Input/Output", L1 DQd (io) "Synchronous Data Input/Output", L2 DQd (io) "Synchronous Data Input/Output", L3 ~{BWd} (in) "Synchronous Byte Write Input", L5 ~{BWa} (in) "Synchronous Byte Write Input", L6 DQa (io) "Synchronous Data Input/Output", L7 DQa (io) "Synchronous Data Input/Output", M2 DQd (io) "Synchronous Data Input/Output", M4 ~{CKE} (in) "Clock Enable", M6 DQa (io) "Synchronous Data Input/Output", N1 DQd (io) "Synchronous Data Input/Output", N2 DQd (io) "Synchronous Data Input/Output", N4 A1 (in) "Synchronous Burst Address Input", N6 DQa (io) "Synchronous Data Input/Output", N7 DQa (io) "Synchronous Data Input/Output", P1 DQd (io) "Synchronous Data Input/Output", P4 A0 (in) "Synchronous Burst Address Input", P7 DQa (io) "Synchronous Data Input/Output", R2 A (in) "Synchronous Address Input", R3 MODE (in) "Burst Sequence Selection", R6 A (in) "Synchronous Address Input", T3 A (in) "Synchronous Address Input", T4 A (in) "Synchronous Address Input", T5 A (in) "Synchronous Address Input", T7 ZZ (in) "Power Sleep Mode", U2 TMS (in) "JTAG Pin", U3 TDI (in) "JTAG Pin", U4 TCK (in) "JTAG Pin", U5 TDO (out) "JTAG Pin"
part B pins: A1 VDDQ (power) "I/O Power Supply", A7 VDDQ (power) "I/O Power Supply", C4 VDD (power) "Power Supply", D3 VSS (power) "Ground", D5 VSS (power) "Ground", E3 VSS (power) "Ground", E5 VSS (power) "Ground", F1 VDDQ (power) "I/O Power Supply", F3 VSS (power) "Ground", F5 VSS (power) "Ground", F7 VDDQ (power) "I/O Power Supply", H3 VSS (power) "Ground", H5 VSS (power) "Ground", J1 VDDQ (power) "I/O Power Supply", J2 VDD (power) "Power Supply", J4 VDD (power) "Power Supply", J6 VDD (power) "Power Supply", J7 VDDQ (power) "I/O Power Supply", K3 VSS (power) "Ground", K5 VSS (power) "Ground", M1 VDDQ (power) "I/O Power Supply", M3 VSS (power) "Ground", M5 VSS (power) "Ground", M7 VDDQ (power) "I/O Power Supply", N3 VSS (power) "Ground", N5 VSS (power) "Ground", P3 VSS (power) "Ground", P5 VSS (power) "Ground", R4 VDD (power) "Power Supply", U1 VDDQ (power) "I/O Power Supply", U7 VDDQ (power) "I/O Power Supply"
part C pins: A4 NC "No Connect", B1 NC "No Connect", B7 NC "No Connect", C1 NC "No Connect", C7 NC "No Connect", D2 NC "No Connect", D4 NC "No Connect", D6 NC "No Connect", G4 NC "No Connect", J3 NC "No Connect", J5 NC "No Connect", L4 NC "No Connect", P2 NC "No Connect", P6 NC "No Connect", R1 NC "No Connect", R5 NC "No Connect", R7 NC "No Connect", T1 NC "No Connect", T2 NC "No Connect", T6 NC "No Connect", U6 NC "No Connect"

## IS61NVF12832EC-250B2LI
designator U?
4 M Flow Through 'No Wait' State Bus Synchronous SRAM with ECC, 128 K x 32, -40 to 85 degC, 119-Pin BGA (PBGA-119), Pb-Free; Manufacturer: Integrated Silicon Solution Inc (ISSI); PartNumber: IS61NVF12832EC-250B2LI; Density: 4M; Packing: Tray / Tube; Vcc: 2.5 V; DatasheetVersion: Rev. A; PackageVersion: Rev. D, 10/2008; PackageReference: PBGA-119; PackageDescription: 119-Pin 14 x 22 mm PBGA, Pitch 1.27 mm; Organization: 128Kx32; RoHS: Pb-Free; VccQ: 2.5 V; Mounting Technology: Surface Mount; Code_JEDEC: MS-028; ComponentLink1Description: Manufacturer URL; ComponentLink1URL: http://www.issi.com/US/index.shtml; ComponentLink2Description: Datasheet; ComponentLink2URL: http://www.issi.com/WW/pdf/61-64NLF_NVF12832EC-12836EC-25618EC.pdf; ComponentLink3Description: Package Specification; ComponentLink3URL: http://www.issi.com/WW/pdf/61NLP_NVP25636A_51218A.pdf
footprint ISSI-PBGA-119-14000X22000DE (BGA, 119-Balls, Body 22x14mm, Pitch 1.27mm)
part A pins: A2 A (in) "Synchronous Address Input", A3 A (in) "Synchronous Address Input", A5 A (in) "Synchronous Address Input", A6 A (in) "Synchronous Address Input", B2 CE2 (in) "Synchronous Chip Enable", B3 A (in) "Synchronous Address Input", B4 ADV (in) "Synchronous Advance/Load", B5 A (in) "Synchronous Address Input", B6 ~{CE2} (in) "Synchronous Chip Enable", C2 A (in) "Synchronous Address Input", C3 A (in) "Synchronous Address Input", C5 A (in) "Synchronous Address Input", C6 A (in) "Synchronous Address Input", D1 DQc (io) "Synchronous Data Input/Output", D7 DQb (io) "Synchronous Data Input/Output", E1 DQc (io) "Synchronous Data Input/Output", E2 DQc (io) "Synchronous Data Input/Output", E4 ~{CE} (in) "Synchronous Chip Enable", E6 DQb (io) "Synchronous Data Input/Output", E7 DQb (io) "Synchronous Data Input/Output", F2 DQc (io) "Synchronous Data Input/Output", F4 ~{OE} (in) "Output Enable", F6 DQb (io) "Synchronous Data Input/Output", G1 DQc (io) "Synchronous Data Input/Output", G2 DQc (io) "Synchronous Data Input/Output", G3 ~{BWc} (in) "Synchronous Byte Write Input", G5 ~{BWb} (in) "Synchronous Byte Write Input", G6 DQb (io) "Synchronous Data Input/Output", G7 DQb (io) "Synchronous Data Input/Output", H1 DQc (io) "Synchronous Data Input/Output", H2 DQc (io) "Synchronous Data Input/Output", H4 ~{WE} (in) "Synchronous Byte Write Enable", H6 DQb (io) "Synchronous Data Input/Output", H7 DQb (io) "Synchronous Data Input/Output", K1 DQd (io) "Synchronous Data Input/Output", K2 DQd (io) "Synchronous Data Input/Output", K4 CLK (in) "Synchronous Clock", K6 DQa (io) "Synchronous Data Input/Output", K7 DQa (io) "Synchronous Data Input/Output", L1 DQd (io) "Synchronous Data Input/Output", L2 DQd (io) "Synchronous Data Input/Output", L3 ~{BWd} (in) "Synchronous Byte Write Input", L5 ~{BWa} (in) "Synchronous Byte Write Input", L6 DQa (io) "Synchronous Data Input/Output", L7 DQa (io) "Synchronous Data Input/Output", M2 DQd (io) "Synchronous Data Input/Output", M4 ~{CKE} (in) "Clock Enable", M6 DQa (io) "Synchronous Data Input/Output", N1 DQd (io) "Synchronous Data Input/Output", N2 DQd (io) "Synchronous Data Input/Output", N4 A1 (in) "Synchronous Burst Address Input", N6 DQa (io) "Synchronous Data Input/Output", N7 DQa (io) "Synchronous Data Input/Output", P1 DQd (io) "Synchronous Data Input/Output", P4 A0 (in) "Synchronous Burst Address Input", P7 DQa (io) "Synchronous Data Input/Output", R2 A (in) "Synchronous Address Input", R3 MODE (in) "Burst Sequence Selection", R6 A (in) "Synchronous Address Input", T3 A (in) "Synchronous Address Input", T4 A (in) "Synchronous Address Input", T5 A (in) "Synchronous Address Input", T7 ZZ (in) "Power Sleep Mode", U2 TMS (in) "JTAG Pin", U3 TDI (in) "JTAG Pin", U4 TCK (in) "JTAG Pin", U5 TDO (out) "JTAG Pin"
part B pins: A1 VDDQ (power) "I/O Power Supply", A7 VDDQ (power) "I/O Power Supply", C4 VDD (power) "Power Supply", D3 VSS (power) "Ground", D5 VSS (power) "Ground", E3 VSS (power) "Ground", E5 VSS (power) "Ground", F1 VDDQ (power) "I/O Power Supply", F3 VSS (power) "Ground", F5 VSS (power) "Ground", F7 VDDQ (power) "I/O Power Supply", H3 VSS (power) "Ground", H5 VSS (power) "Ground", J1 VDDQ (power) "I/O Power Supply", J2 VDD (power) "Power Supply", J4 VDD (power) "Power Supply", J6 VDD (power) "Power Supply", J7 VDDQ (power) "I/O Power Supply", K3 VSS (power) "Ground", K5 VSS (power) "Ground", M1 VDDQ (power) "I/O Power Supply", M3 VSS (power) "Ground", M5 VSS (power) "Ground", M7 VDDQ (power) "I/O Power Supply", N3 VSS (power) "Ground", N5 VSS (power) "Ground", P3 VSS (power) "Ground", P5 VSS (power) "Ground", R4 VDD (power) "Power Supply", U1 VDDQ (power) "I/O Power Supply", U7 VDDQ (power) "I/O Power Supply"
part C pins: A4 NC "No Connect", B1 NC "No Connect", B7 NC "No Connect", C1 NC "No Connect", C7 NC "No Connect", D2 NC "No Connect", D4 NC "No Connect", D6 NC "No Connect", G4 NC "No Connect", J3 NC "No Connect", J5 NC "No Connect", L4 NC "No Connect", P2 NC "No Connect", P6 NC "No Connect", R1 NC "No Connect", R5 NC "No Connect", R7 NC "No Connect", T1 NC "No Connect", T2 NC "No Connect", T6 NC "No Connect", U6 NC "No Connect"

## IS61NVF12832EC-250B2LI-TR
designator U?
4 M Flow Through 'No Wait' State Bus Synchronous SRAM with ECC, 128 K x 32, -40 to 85 degC, 119-Pin BGA (PBGA-119), Pb-Free; Manufacturer: Integrated Silicon Solution Inc (ISSI); PartNumber: IS61NVF12832EC-250B2LI-TR; Density: 4M; Packing: Tape & Reel; Vcc: 2.5 V; DatasheetVersion: Rev. A; PackageVersion: Rev. D, 10/2008; PackageReference: PBGA-119; PackageDescription: 119-Pin 14 x 22 mm PBGA, Pitch 1.27 mm; Organization: 128Kx32; RoHS: Pb-Free; VccQ: 2.5 V; Mounting Technology: Surface Mount; Code_JEDEC: MS-028; ComponentLink1Description: Manufacturer URL; ComponentLink1URL: http://www.issi.com/US/index.shtml; ComponentLink2Description: Datasheet; ComponentLink2URL: http://www.issi.com/WW/pdf/61-64NLF_NVF12832EC-12836EC-25618EC.pdf; ComponentLink3Description: Package Specification; ComponentLink3URL: http://www.issi.com/WW/pdf/61NLP_NVP25636A_51218A.pdf
footprint ISSI-PBGA-119-14000X22000DE (BGA, 119-Balls, Body 22x14mm, Pitch 1.27mm)
part A pins: A2 A (in) "Synchronous Address Input", A3 A (in) "Synchronous Address Input", A5 A (in) "Synchronous Address Input", A6 A (in) "Synchronous Address Input", B2 CE2 (in) "Synchronous Chip Enable", B3 A (in) "Synchronous Address Input", B4 ADV (in) "Synchronous Advance/Load", B5 A (in) "Synchronous Address Input", B6 ~{CE2} (in) "Synchronous Chip Enable", C2 A (in) "Synchronous Address Input", C3 A (in) "Synchronous Address Input", C5 A (in) "Synchronous Address Input", C6 A (in) "Synchronous Address Input", D1 DQc (io) "Synchronous Data Input/Output", D7 DQb (io) "Synchronous Data Input/Output", E1 DQc (io) "Synchronous Data Input/Output", E2 DQc (io) "Synchronous Data Input/Output", E4 ~{CE} (in) "Synchronous Chip Enable", E6 DQb (io) "Synchronous Data Input/Output", E7 DQb (io) "Synchronous Data Input/Output", F2 DQc (io) "Synchronous Data Input/Output", F4 ~{OE} (in) "Output Enable", F6 DQb (io) "Synchronous Data Input/Output", G1 DQc (io) "Synchronous Data Input/Output", G2 DQc (io) "Synchronous Data Input/Output", G3 ~{BWc} (in) "Synchronous Byte Write Input", G5 ~{BWb} (in) "Synchronous Byte Write Input", G6 DQb (io) "Synchronous Data Input/Output", G7 DQb (io) "Synchronous Data Input/Output", H1 DQc (io) "Synchronous Data Input/Output", H2 DQc (io) "Synchronous Data Input/Output", H4 ~{WE} (in) "Synchronous Byte Write Enable", H6 DQb (io) "Synchronous Data Input/Output", H7 DQb (io) "Synchronous Data Input/Output", K1 DQd (io) "Synchronous Data Input/Output", K2 DQd (io) "Synchronous Data Input/Output", K4 CLK (in) "Synchronous Clock", K6 DQa (io) "Synchronous Data Input/Output", K7 DQa (io) "Synchronous Data Input/Output", L1 DQd (io) "Synchronous Data Input/Output", L2 DQd (io) "Synchronous Data Input/Output", L3 ~{BWd} (in) "Synchronous Byte Write Input", L5 ~{BWa} (in) "Synchronous Byte Write Input", L6 DQa (io) "Synchronous Data Input/Output", L7 DQa (io) "Synchronous Data Input/Output", M2 DQd (io) "Synchronous Data Input/Output", M4 ~{CKE} (in) "Clock Enable", M6 DQa (io) "Synchronous Data Input/Output", N1 DQd (io) "Synchronous Data Input/Output", N2 DQd (io) "Synchronous Data Input/Output", N4 A1 (in) "Synchronous Burst Address Input", N6 DQa (io) "Synchronous Data Input/Output", N7 DQa (io) "Synchronous Data Input/Output", P1 DQd (io) "Synchronous Data Input/Output", P4 A0 (in) "Synchronous Burst Address Input", P7 DQa (io) "Synchronous Data Input/Output", R2 A (in) "Synchronous Address Input", R3 MODE (in) "Burst Sequence Selection", R6 A (in) "Synchronous Address Input", T3 A (in) "Synchronous Address Input", T4 A (in) "Synchronous Address Input", T5 A (in) "Synchronous Address Input", T7 ZZ (in) "Power Sleep Mode", U2 TMS (in) "JTAG Pin", U3 TDI (in) "JTAG Pin", U4 TCK (in) "JTAG Pin", U5 TDO (out) "JTAG Pin"
part B pins: A1 VDDQ (power) "I/O Power Supply", A7 VDDQ (power) "I/O Power Supply", C4 VDD (power) "Power Supply", D3 VSS (power) "Ground", D5 VSS (power) "Ground", E3 VSS (power) "Ground", E5 VSS (power) "Ground", F1 VDDQ (power) "I/O Power Supply", F3 VSS (power) "Ground", F5 VSS (power) "Ground", F7 VDDQ (power) "I/O Power Supply", H3 VSS (power) "Ground", H5 VSS (power) "Ground", J1 VDDQ (power) "I/O Power Supply", J2 VDD (power) "Power Supply", J4 VDD (power) "Power Supply", J6 VDD (power) "Power Supply", J7 VDDQ (power) "I/O Power Supply", K3 VSS (power) "Ground", K5 VSS (power) "Ground", M1 VDDQ (power) "I/O Power Supply", M3 VSS (power) "Ground", M5 VSS (power) "Ground", M7 VDDQ (power) "I/O Power Supply", N3 VSS (power) "Ground", N5 VSS (power) "Ground", P3 VSS (power) "Ground", P5 VSS (power) "Ground", R4 VDD (power) "Power Supply", U1 VDDQ (power) "I/O Power Supply", U7 VDDQ (power) "I/O Power Supply"
part C pins: A4 NC "No Connect", B1 NC "No Connect", B7 NC "No Connect", C1 NC "No Connect", C7 NC "No Connect", D2 NC "No Connect", D4 NC "No Connect", D6 NC "No Connect", G4 NC "No Connect", J3 NC "No Connect", J5 NC "No Connect", L4 NC "No Connect", P2 NC "No Connect", P6 NC "No Connect", R1 NC "No Connect", R5 NC "No Connect", R7 NC "No Connect", T1 NC "No Connect", T2 NC "No Connect", T6 NC "No Connect", U6 NC "No Connect"

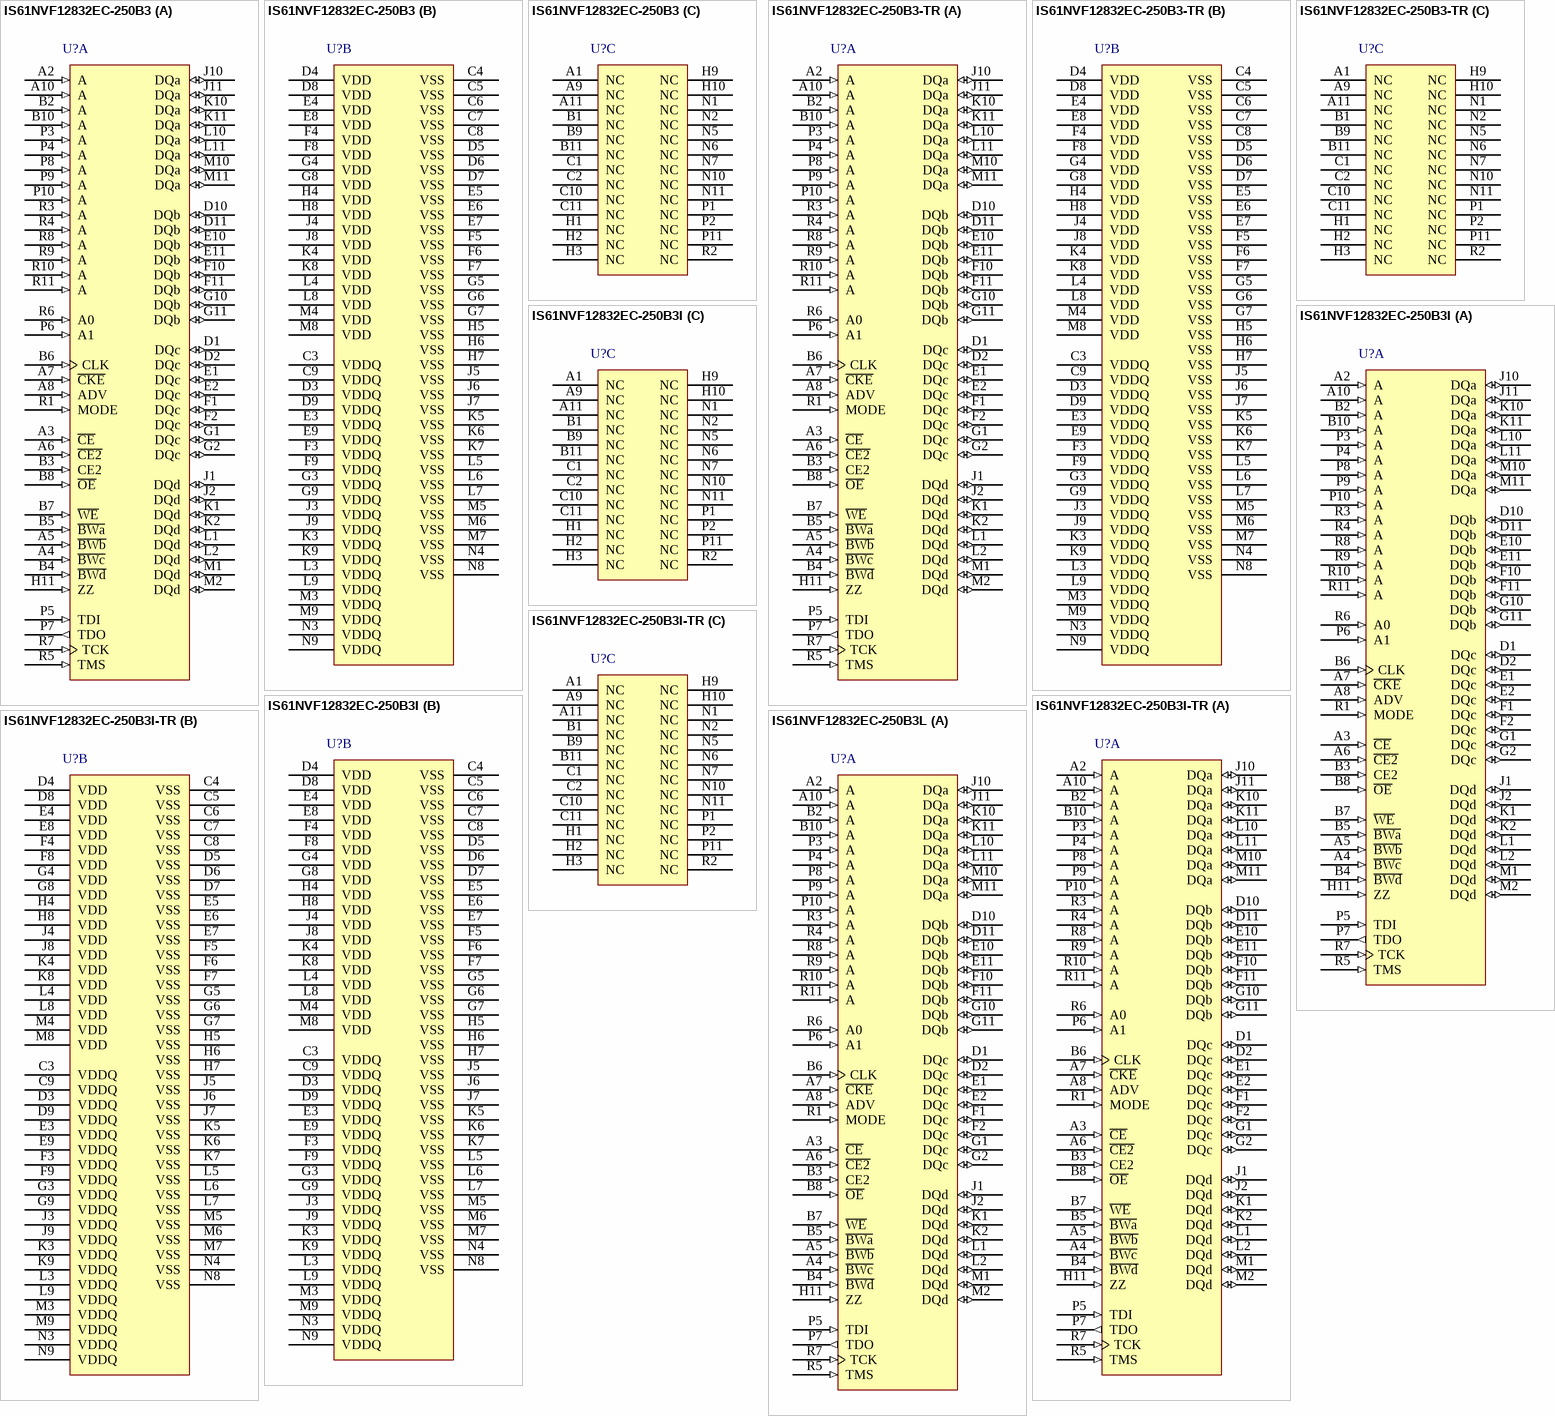
[diagram p129: symbols IS61NVF12832EC-250B3 to IS61NVF12832EC-250B3L]